# Altium schematic symbol library 215079-4.SchLib: 2 symbols
Pins are listed as number, name and electrical type; pins without a type are passive.

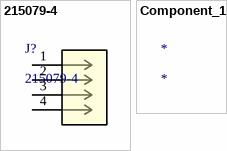
[diagram p0: symbols 215079-4 to Component_1]

## 215079-4
designator J?
No Description Available; Mfr_Name: TE Connectivity; Copyright: Copyright (C) 2022 Ultra Librarian. All rights reserved.; Manufacturer_Part_Number: 215079-4; RefDes: RefDes; Type: DEV
footprint CONN_215079-4_TYC
pins: 1, 2, 3, 4

## Component_1
designator *